# Altium footprint library Devices.PcbLib: 190 footprints (part 9 of 12)
Each footprint in its own frame and in the unit in brackets; x right, y up, seen from the top. Pads: shape width x height; smd on the part's side, far side on the other; paste and mask are expansions set on the pad; w line width, h text height; cw(c..) or ccw(c..) is an arc to the next point about the centre after c.
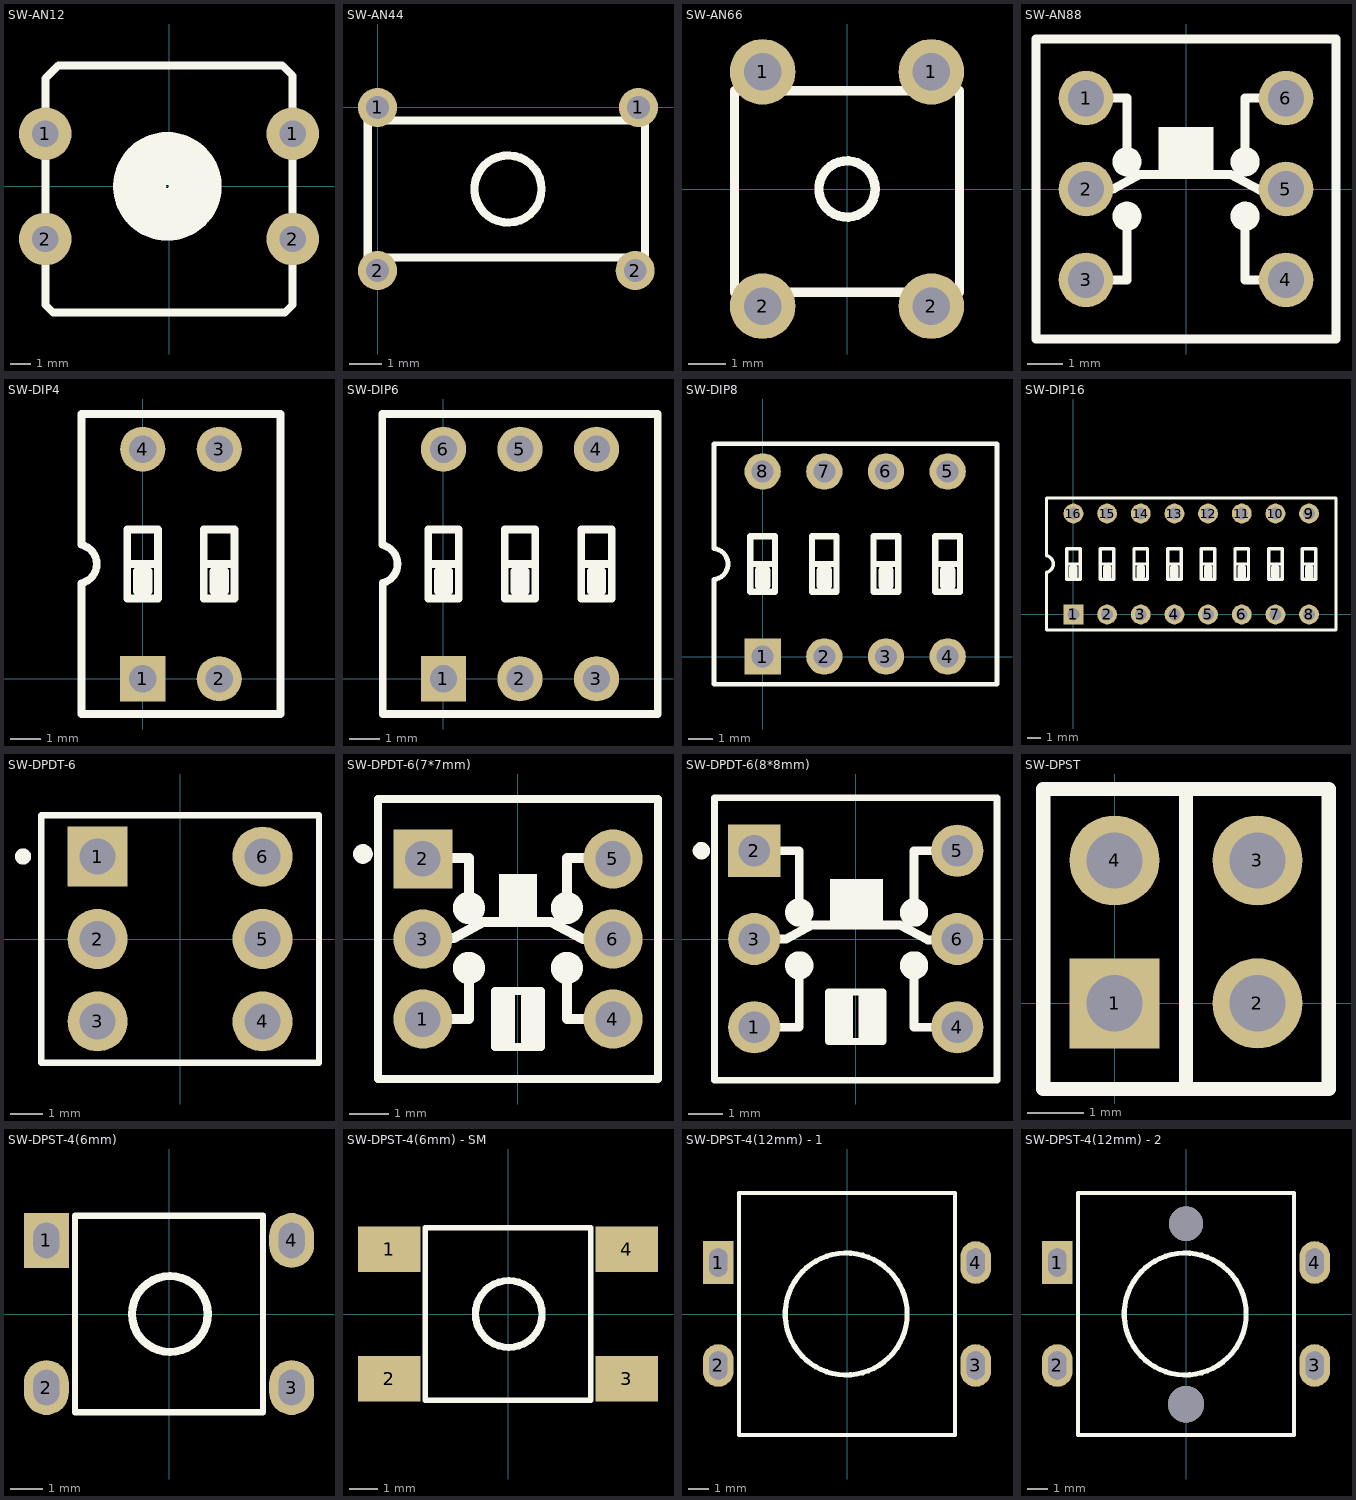
[diagram p8: the footprints below, top view; thin cyan lines are the x and y axes]

## SW-AN12 [mil]
pads (4):
  round 100 hole 50: 1(-235,100) 1(235,100) 2(-235,-100) 2(235,-100)
Top Overlay:
  circle w100: c-3.15,0 r53.15
  lines w15: -235,-225 -235,205 -210,230 215,230 235,210 235,-225 220,-240 -220,-240 -235,-225

## SW-AN44 [mm]
pads (4):
  round 1.2 hole 0.7: 1(0,0) 1(8,0) 2(0,-5) 2(7.9,-5)
Top Overlay:
  circle w0.254: c4,-2.5 r1.03
  lines w0.254: -0.3,-4.6 -0.3,-0.4 8.2,-0.4 8.2,-4.6 -0.3,-4.6

## SW-AN66 [mil]
pads (4):
  round 70 hole 40: 1(-90,125) 1(90,125) 2(-90,-125) 2(90,-125)
Top Overlay:
  circle w10: c0,0 r30
  lines w10: -120,-110 120,-110 120,105 -120,105 -120,-110

## SW-AN88 [mil]
pads (6):
  round 60 hole 40: 1(-110,100) 2(-110,0) 3(-110,-100) 4(110,-100) 5(110,0) 6(110,100)
Top Overlay:
  circle w18: c-65,30 r7.07
  circle w18: c65,30 r7.07
  circle w18: c65,-30 r7.07
  circle w18: c-65,-30 r7.07
  rectangle: -30,16 30,68
  lines w10: -110,-100 -65,-100 -65,-40 ; -110,0 -80,0 -51,16 49,16 81,-1 109,-1 110,0 ; -110,100 -65,100 -65,30 ; 65,-40 65,-100 110,-100 ; 65,40 65,100 110,100 ; -165,-165 -165,165 165,165 165,-165 -165,-165

## SW-DIP4 [mm]
pads (4):
  rect 1.5x1.5 hole 0.9: 1(0,0)
  round 1.5 hole 0.9: 2(2.54,0) 3(2.54,7.62) 4(0,7.62)
Top Overlay:
  lines w0.254: -0.508,3.81 0.381,3.81 ; -0.127,2.921 0.127,2.921 ; -0.127,3.556 0.127,3.556 ; 2.159,3.81 3.048,3.81 ; 2.413,2.921 2.667,2.921 ; 2.413,3.556 2.667,3.556 ; -2.032,-1.168 -2.032,3.175 ccw(c-2.175,3.81) -2.032,4.445 -2.032,8.788 4.572,8.788 4.572,-1.168 -2.032,-1.168 ; -0.508,2.667 0.508,2.667 0.508,4.953 -0.508,4.953 -0.508,2.667 ; 2.032,2.667 3.048,2.667 3.048,4.953 2.032,4.953 2.032,2.667
  lines w0.381: -0.127,2.921 -0.127,3.556 ; 0.127,2.921 0.127,3.556 ; 2.413,2.921 2.413,3.556 ; 2.667,2.921 2.667,3.556

## SW-DIP6 [mm]
pads (6):
  rect 1.5x1.5 hole 0.9: 1(0,0)
  round 1.5 hole 0.9: 2(2.54,0) 3(5.08,0) 4(5.08,7.62) 5(2.54,7.62) 6(0,7.62)
Top Overlay:
  lines w0.254: -2.012,3.18 ccw(c-2.175,3.81) -2.032,4.445 -2.032,8.788 7.112,8.788 7.112,-1.168 -2.007,-1.168 -2.009,-1.166 -2.009,3.165 ; -0.508,3.81 0.381,3.81 ; -0.127,2.921 0.127,2.921 ; -0.127,3.556 0.127,3.556 ; 2.159,3.81 3.048,3.81 ; 2.413,2.921 2.667,2.921 ; 2.413,3.556 2.667,3.556 ; 4.699,3.81 5.588,3.81 ; 4.953,2.921 5.207,2.921 ; 4.953,3.556 5.207,3.556 ; -0.508,2.667 -0.508,4.953 0.508,4.953 0.508,2.667 -0.508,2.667 ; 2.032,2.667 2.032,4.953 3.048,4.953 3.048,2.667 2.032,2.667 ; 4.572,2.667 5.588,2.667 5.588,4.953 4.572,4.953 4.572,2.667
  lines w0.381: -0.127,2.921 -0.127,3.556 ; 0.127,2.921 0.127,3.556 ; 2.413,2.921 2.413,3.556 ; 2.667,2.921 2.667,3.556 ; 4.953,2.921 4.953,3.556 ; 5.207,2.921 5.207,3.556

## SW-DIP8 [mm] "DIP; 8 Leads; Row Spacing 7.62 mm; Pitch 2.54 mm"
pads (8):
  rect 1.5x1.5 hole 0.9: 1(0,0)
  round 1.5 hole 0.9: 2(2.54,0) 3(5.08,0) 4(7.62,0) 5(7.62,7.62) 6(5.08,7.62) 7(2.54,7.62) 8(0,7.62)
Top Overlay:
  lines w0.2: -2.006,4.471 -1.981,4.47 -2.007,4.445 ; -2.007,4.445 cw(c-2.066,3.81) -2.007,3.175 -2.007,-1.143 9.652,-1.143 9.652,8.763 -2.007,8.763 -2.007,4.445
  lines w0.254: -0.508,3.81 0.381,3.81 ; -0.127,2.921 0.127,2.921 ; -0.127,3.556 0.127,3.556 ; 2.159,3.81 3.048,3.81 ; 2.413,2.921 2.667,2.921 ; 2.413,3.556 2.667,3.556 ; 4.699,3.81 5.588,3.81 ; 4.953,2.921 5.207,2.921 ; 4.953,3.556 5.207,3.556 ; 7.239,3.81 8.128,3.81 ; 7.493,2.921 7.747,2.921 ; 7.493,3.556 7.747,3.556 ; -0.508,2.667 0.508,2.667 0.508,4.953 -0.508,4.953 -0.508,2.667 ; 2.032,2.667 3.048,2.667 3.048,4.953 2.032,4.953 2.032,2.667 ; 4.572,2.667 4.572,4.953 5.588,4.953 5.588,2.667 4.572,2.667 ; 7.112,2.667 8.128,2.667 8.128,4.953 7.112,4.953 7.112,2.667
  lines w0.381: -0.127,2.921 -0.127,3.556 ; 0.127,2.921 0.127,3.556 ; 2.413,2.921 2.413,3.556 ; 2.667,2.921 2.667,3.556 ; 4.953,2.921 4.953,3.556 ; 5.207,2.921 5.207,3.556 ; 7.493,2.921 7.493,3.556 ; 7.747,2.921 7.747,3.556

## SW-DIP16 [mm]
pads (16):
  rect 1.5x1.5 hole 0.9: 1(0,0)
  round 1.5 hole 0.9: 2(2.54,0) 3(5.08,0) 4(7.62,0) 5(10.16,0) 6(12.7,0) 7(15.24,0) 8(17.78,0) 9(17.78,7.62) 10(15.24,7.62) 11(12.7,7.62) 12(10.16,7.62) 13(7.62,7.62) 14(5.08,7.62) 15(2.54,7.62) 16(0,7.62)
Top Overlay:
  lines w0.254: -0.508,3.81 0.381,3.81 ; -0.127,2.921 0.127,2.921 ; -0.127,3.556 0.127,3.556 ; 2.159,3.81 3.048,3.81 ; 2.413,2.921 2.667,2.921 ; 2.413,3.556 2.667,3.556 ; 4.699,3.81 5.588,3.81 ; 4.953,2.921 5.207,2.921 ; 4.953,3.556 5.207,3.556 ; 7.239,3.81 8.128,3.81 ; 7.493,2.921 7.747,2.921 ; 7.493,3.556 7.747,3.556 ; 9.652,3.81 10.541,3.81 ; 10.033,2.921 10.287,2.921 ; 10.033,3.556 10.287,3.556 ; 12.319,3.81 13.208,3.81 ; 12.573,2.921 12.827,2.921 ; 12.573,3.556 12.827,3.556 ; 14.859,3.81 15.748,3.81 ; 15.113,2.921 15.367,2.921 ; 15.113,3.556 15.367,3.556 ; 17.399,3.81 18.288,3.81 ; 17.653,2.921 17.907,2.921 ; 17.653,3.556 17.907,3.556 ; -2.032,-1.168 -2.032,3.175 ccw(c-2.175,3.81) -2.032,4.445 -2.032,8.788 19.812,8.788 19.812,-1.168 -2.032,-1.168 ; -0.508,2.667 0.508,2.667 0.508,4.953 -0.508,4.953 -0.508,2.667 ; 2.032,2.667 3.048,2.667 3.048,4.953 2.032,4.953 2.032,2.667 ; 4.572,2.667 4.572,4.953 5.588,4.953 5.588,2.667 4.572,2.667 ; 7.112,2.667 8.128,2.667 8.128,4.953 7.112,4.953 7.112,2.667 ; 9.652,2.667 10.668,2.667 10.668,4.953 9.652,4.953 9.652,2.667 ; 12.192,2.667 13.208,2.667 13.208,4.953 12.192,4.953 12.192,2.667 ; 14.732,2.667 14.732,4.953 15.748,4.953 15.748,2.667 14.732,2.667 ; 17.272,2.667 18.288,2.667 18.288,4.953 17.272,4.953 17.272,2.667
  lines w0.381: -0.127,2.921 -0.127,3.556 ; 0.127,2.921 0.127,3.556 ; 2.413,2.921 2.413,3.556 ; 2.667,2.921 2.667,3.556 ; 4.953,2.921 4.953,3.556 ; 5.207,2.921 5.207,3.556 ; 7.493,2.921 7.493,3.556 ; 7.747,2.921 7.747,3.556 ; 10.033,2.921 10.033,3.556 ; 10.287,2.921 10.287,3.556 ; 12.573,2.921 12.573,3.556 ; 12.827,2.921 12.827,3.556 ; 15.113,2.921 15.113,3.556 ; 15.367,2.921 15.367,3.556 ; 17.653,2.921 17.653,3.556 ; 17.907,2.921 17.907,3.556

## SW-DPDT-6 [mm] "Double-Pole, Double-Throw Switch; 6 Leads"
height 1.5
pads (6):
  rect 1.85x1.85 hole 1.1: 1(-2.54,2.54)
  round 1.85 hole 1.1: 2(-2.54,0) 3(-2.54,-2.54) 4(2.54,-2.54) 5(2.54,0) 6(2.54,2.54)
Top Overlay:
  circle w0.25: c-4.836,2.541 r0.125
  lines w0.2: -4.28,-3.81 -4.28,3.81 4.28,3.81 4.28,-3.81 -4.28,-3.81

## SW-DPDT-6(7*7mm) [mm] "Double-Pole, Double-Throw Switch; 6 Leads"
pads (6):
  round 1.5 hole 0.9: 1(-2.413,-2.032) 3(-2.413,0) 4(2.413,-2.032) 5(2.413,2.032) 6(2.413,0)
  rect 1.5x1.5 hole 0.9: 2(-2.413,2.032)
Top Overlay:
  circle w0.25: c-3.935,2.159 r0.125
  circle w0.457: c-1.245,0.787 r0.18
  circle w0.457: c1.245,0.787 r0.18
  circle w0.457: c1.245,-0.737 r0.18
  circle w0.457: c-1.245,-0.737 r0.18
  rectangle: -0.483,0.533 0.483,1.651
  lines w0.2: -3.556,-3.556 3.556,-3.556 3.556,3.556 -3.556,3.556 -3.556,-3.556
  lines w0.203: -0.381,-2.743 -0.381,-1.321 ; -0.178,-2.718 -0.178,-1.321 ; 0.178,-2.743 0.178,-1.321 ; 0.381,-2.692 0.381,-1.321 ; -0.584,-2.743 0.584,-2.743 0.584,-1.321 -0.584,-1.321 -0.584,-2.743
  lines w0.254: -2.413,-2.032 -1.245,-2.032 -1.245,-0.991 ; -2.413,0.025 -1.626,0.025 -0.889,0.432 0.203,0.432 0.838,0.432 1.651,0 2.413,0 ; -2.311,2.057 -1.245,2.057 -1.245,0.787 ; 1.245,-0.991 1.245,-2.032 2.413,-2.032 ; 1.245,1.041 1.245,2.057 2.413,2.057

## SW-DPDT-6(8*8mm) [mm] "Double-Pole, Double-Throw Switch; 6 Leads"
pads (6):
  round 1.5 hole 0.9: 1(-2.921,-2.54) 3(-2.921,0) 4(2.921,-2.54) 5(2.921,2.54) 6(2.921,0)
  rect 1.5x1.5 hole 0.9: 2(-2.921,2.54)
Top Overlay:
  circle w0.25: c-4.443,2.54 r0.125
  circle w0.457: c-1.626,-0.762 r0.18
  circle w0.457: c1.676,-0.762 r0.18
  circle w0.457: c1.676,0.762 r0.18
  circle w0.457: c-1.626,0.762 r0.18
  rectangle: -0.737,0.406 0.787,1.727
  lines w0.2: -4.064,-4.064 4.064,-4.064 4.064,4.064 -4.064,4.064 -4.064,-4.064
  lines w0.203: -0.584,-2.946 -0.584,-1.524 ; -0.381,-2.946 -0.381,-1.524 ; -0.178,-2.921 -0.178,-1.524 ; 0.178,-2.946 0.178,-1.524 ; 0.381,-2.896 0.381,-1.524 ; 0.584,-2.946 0.584,-1.549 ; -0.787,-2.946 0.787,-2.946 0.787,-1.524 -0.787,-1.524 -0.787,-2.946
  lines w0.254: -2.769,-2.54 -1.626,-2.54 -1.626,-1.016 ; -2.769,0 -2.007,0 -1.27,0.406 1.27,0.406 2.083,-0.025 2.794,-0.025 2.819,0 ; -2.769,2.54 -1.626,2.54 -1.626,0.762 ; 1.676,-1.016 1.676,-2.54 2.819,-2.54 ; 1.676,1.016 1.676,2.54 2.819,2.54

## SW-DPST [mm]
pads (4):
  rect 1.6x1.6 hole 1: 1(0,0)
  round 1.6 hole 1: 2(2.54,0) 3(2.54,2.54) 4(0,2.54)
Top Overlay:
  lines w0.254: 1.27,-1.524 1.27,3.81 ; -1.27,-1.524 -1.27,3.81 3.81,3.81 3.81,-1.524 -1.27,-1.524

## SW-DPST-4(6mm) [mm] "Double-Pole, Single-Throw Switch; 4 Leads"
pads (4):
  rect 1.4x1.7 hole 1.1 slot 0.8 at 0 deg: 1(-3.81,2.286)
  oval 1.4x1.7 hole 1.1 slot 0.8 at 0 deg: 2(-3.81,-2.286) 3(3.81,-2.286) 4(3.81,2.286)
Top Overlay:
  circle w0.254: c0.027,0 r1.177
  lines w0.2: -2.921,-3.048 2.921,-3.048 2.921,3.048 -2.921,3.048 -2.921,-3.048

## SW-DPST-4(6mm) - SM [mm] "Double-Pole, Single-Throw Switch; 4 Leads"
pads (4):
  rect 2.2x1.6 smd: 1(-4.191,2.286) 2(-4.191,-2.286) 3(4.191,-2.286) 4(4.191,2.286)
Top Overlay:
  circle w0.254: c0.027,0 r1.177
  lines w0.2: -2.921,-3.048 -2.921,3.048 2.921,3.048 2.921,-3.048 -2.921,-3.048

## SW-DPST-4(12mm) - 1 [mm] "Double-Pole, Single-Throw Switch; 4 Leads"
pads (4):
  rect 1.5x2.1 hole 1.4 slot 0.9 at 0 deg: 1(-6.35,2.54)
  oval 1.5x2.1 hole 1.4 slot 0.9 at 0 deg: 2(-6.35,-2.54) 3(6.35,-2.54) 4(6.35,2.54)
Top Overlay:
  circle w0.254: c-0.04,0 r3.008
  lines w0.2: -5.334,-5.969 -5.334,5.969 5.334,5.969 5.334,-5.969 -5.334,-5.969

## SW-DPST-4(12mm) - 2 [mm] "Double-Pole, Single-Throw Switch; 4 Leads"
pads (4):
  rect 1.5x2.1 hole 1.4 slot 0.9 at 0 deg: 1(-6.35,2.54)
  oval 1.5x2.1 hole 1.4 slot 0.9 at 0 deg: 2(-6.35,-2.54) 3(6.35,-2.54) 4(6.35,2.54)
via 0,-4.445 diameter 1.8 hole 1.8
via 0,4.445 diameter 1.7 hole 1.7
Top Overlay:
  circle w0.254: c-0.04,0 r3.008
  lines w0.2: -5.334,-5.969 5.334,-5.969 5.334,5.969 -5.334,5.969 -5.334,-5.969